# EAGLE library part JW2A (library Panasonic Relay)
JW - 2 Form A - Single side stable Data sheet <https://www.panasonic-electric-works.com/eu/download.htm?id=55825> Parameters Max. switching voltage: 30 V DC / 250 V AC Max. switching current: 5 A / 10 A Operational function: Single side stable Contact arrangement: 1 CO / 1 NO / 2 CO / 2 NO Applications Home appliances: TV sets, VCR, Microwave ovens Office machines: Photocopiers, Vending machines Industrial equipment: NC machines, Robots, Temperature controllers Options Available as sealed (SN) or flux-resistant (HN) types.
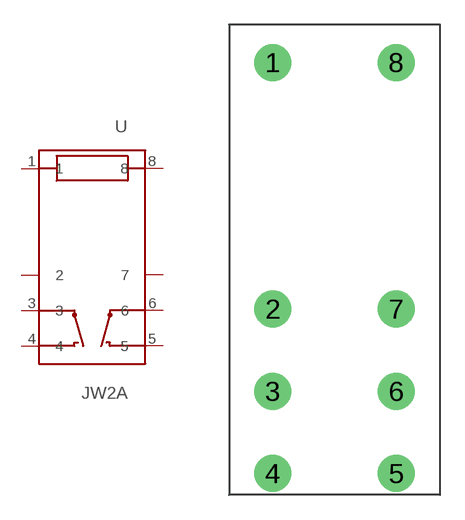
[diagram p80: symbol with the pads of JW_2_FORM_A; footprint JW_2_FORM_A]

Designator prefix -

## JW2AHN-DC12V (U_COIL: 12V DC), JW2AHN-DC24V (U_COIL: 24V DC), JW2AHN-DC48V (U_COIL: 48V DC), JW2AHN-DC5V (U_COIL: 5V DC), JW2AHN-DC6V (U_COIL: 6V DC), JW2AHN-DC9V (U_COIL: 9V DC), JW2ASN-DC12V (U_COIL: 12V DC), JW2ASN-DC24V (U_COIL: 24V DC), JW2ASN-DC48V (U_COIL: 48V DC), JW2ASN-DC5V (U_COIL: 5V DC), JW2ASN-DC6V (U_COIL: 6V DC), JW2ASN-DC9V (U_COIL: 9V DC)  [JW_2_FORM_A]
1  1
3  3
4  4
5  5
6  6
8  8

## Footprint JW_2_FORM_A (pad centres in mm)
drill 1.5: 1 -3.75,12; 2 -3.75,-3; 3 -3.75,-8; 4 -3.75,-13; 5 3.75,-13; 6 3.75,-8; 7 3.75,-3; 8 3.75,12